# EAGLE library part TPS63051 (library bodger)
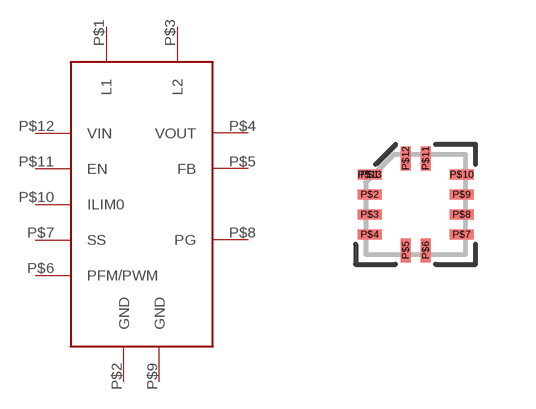
[diagram p49: symbol with the pads of VQFN12-RMW; footprint VQFN12-RMW]

Designator prefix -

## TPS63051RMW  [VQFN12-RMW]
P$1  L1
P$2  GND  pwr
P$3  L2
P$4  VOUT  out
P$5  FB  in
P$6  PFM/PWM  in
P$7  SS
P$8  PG  oc
P$9  GND  pwr
P$10  ILIM0  in
P$11  EN  in
P$12  VIN  in

## Footprint VQFN12-RMW (pad centres in mm)
smd 0.6 x 0.25: P$1 -1.15,0.75; P$2 -1.15,0.25; P$3 -1.15,-0.25; P$4 -1.15,-0.75; P$7 1.15,-0.75; P$8 1.15,-0.25; P$9 1.15,0.25; P$10 1.15,0.75; P$13 -1.15,0.75
smd 0.25 x 0.6: P$5 -0.25,-1.15; P$6 0.25,-1.15; P$11 0.25,1.15; P$12 -0.25,1.15